# Altium schematic symbol library 45° Shielded Modular Jack.SchLib: 2 symbols
Pins are listed as number, name and electrical type; pins without a type are passive.

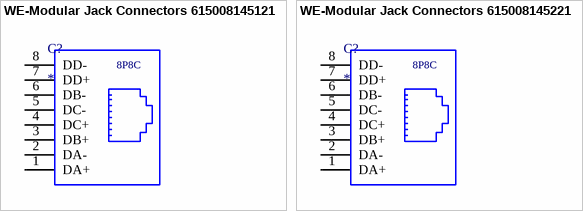
[diagram p0: symbols WE-Modular Jack Connectors 615008145121 to WE-Modular Jack Connectors 615008145221]

## WE-Modular Jack Connectors 615008145121
designator C?
WR-COM Modular Jack 45° Shielded 1x1 TH  8P8C Reverse White; Manufacturer: Würth Elektronik eiSos GmbH; partNo: 615008145121; ComponentLink1 Description: Manufacturer; ComponentLink2 Description: Datasheet; NoPins: 8; ComponentLink1URL: http://www.we-online.de; ComponentLink2URL: http://katalog.we-online.de/em/datasheet/615008145121.pdf; Created by: Karrer Zheng; Created Date: 10/22/2014
footprint 615008145121 (45° Shielded 1x1 TH  8P8C Reverse White)
pins: 1 DA+, 2 DA-, 3 DB+, 4 DC+, 5 DC-, 6 DB-, 7 DD+, 8 DD-
text: 8P8C

## WE-Modular Jack Connectors 615008145221
designator C?
WR-COM Modular Jack 45° Shielded 1x1 TH  8P8C Standard White; Manufacturer: Würth Elektronik eiSos GmbH; partNo: 615008145221; ComponentLink1 Description: Manufacturer; ComponentLink2 Description: Datasheet; NoPins: 8; ComponentLink1URL: http://www.we-online.de; ComponentLink2URL: http://katalog.we-online.de/em/datasheet/615008145221.pdf; Created by: Karrer Zheng; Created Date: 10/22/2014
footprint 615008145221 (45° Shielded 1x1 TH  8P8C Standard White)
pins: 1 DA+, 2 DA-, 3 DB+, 4 DC+, 5 DC-, 6 DB-, 7 DD+, 8 DD-
text: 8P8C